# Altium schematic symbol library Triac.SchLib: 1 symbol
Pins are listed as number, name and electrical type; pins without a type are passive.

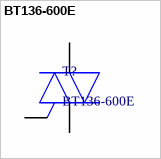
[diagram p0: symbol BT136-600E]

## BT136-600E
designator T?
Triak; 600V; 4A; 11mA
footprint TO-220
footprint TO-220-H
pins: 1 T1, 2 T2, 3 G